# Altium integrated library ON Semi Logic Register.IntLib: 72 symbols (part 2 of 2)
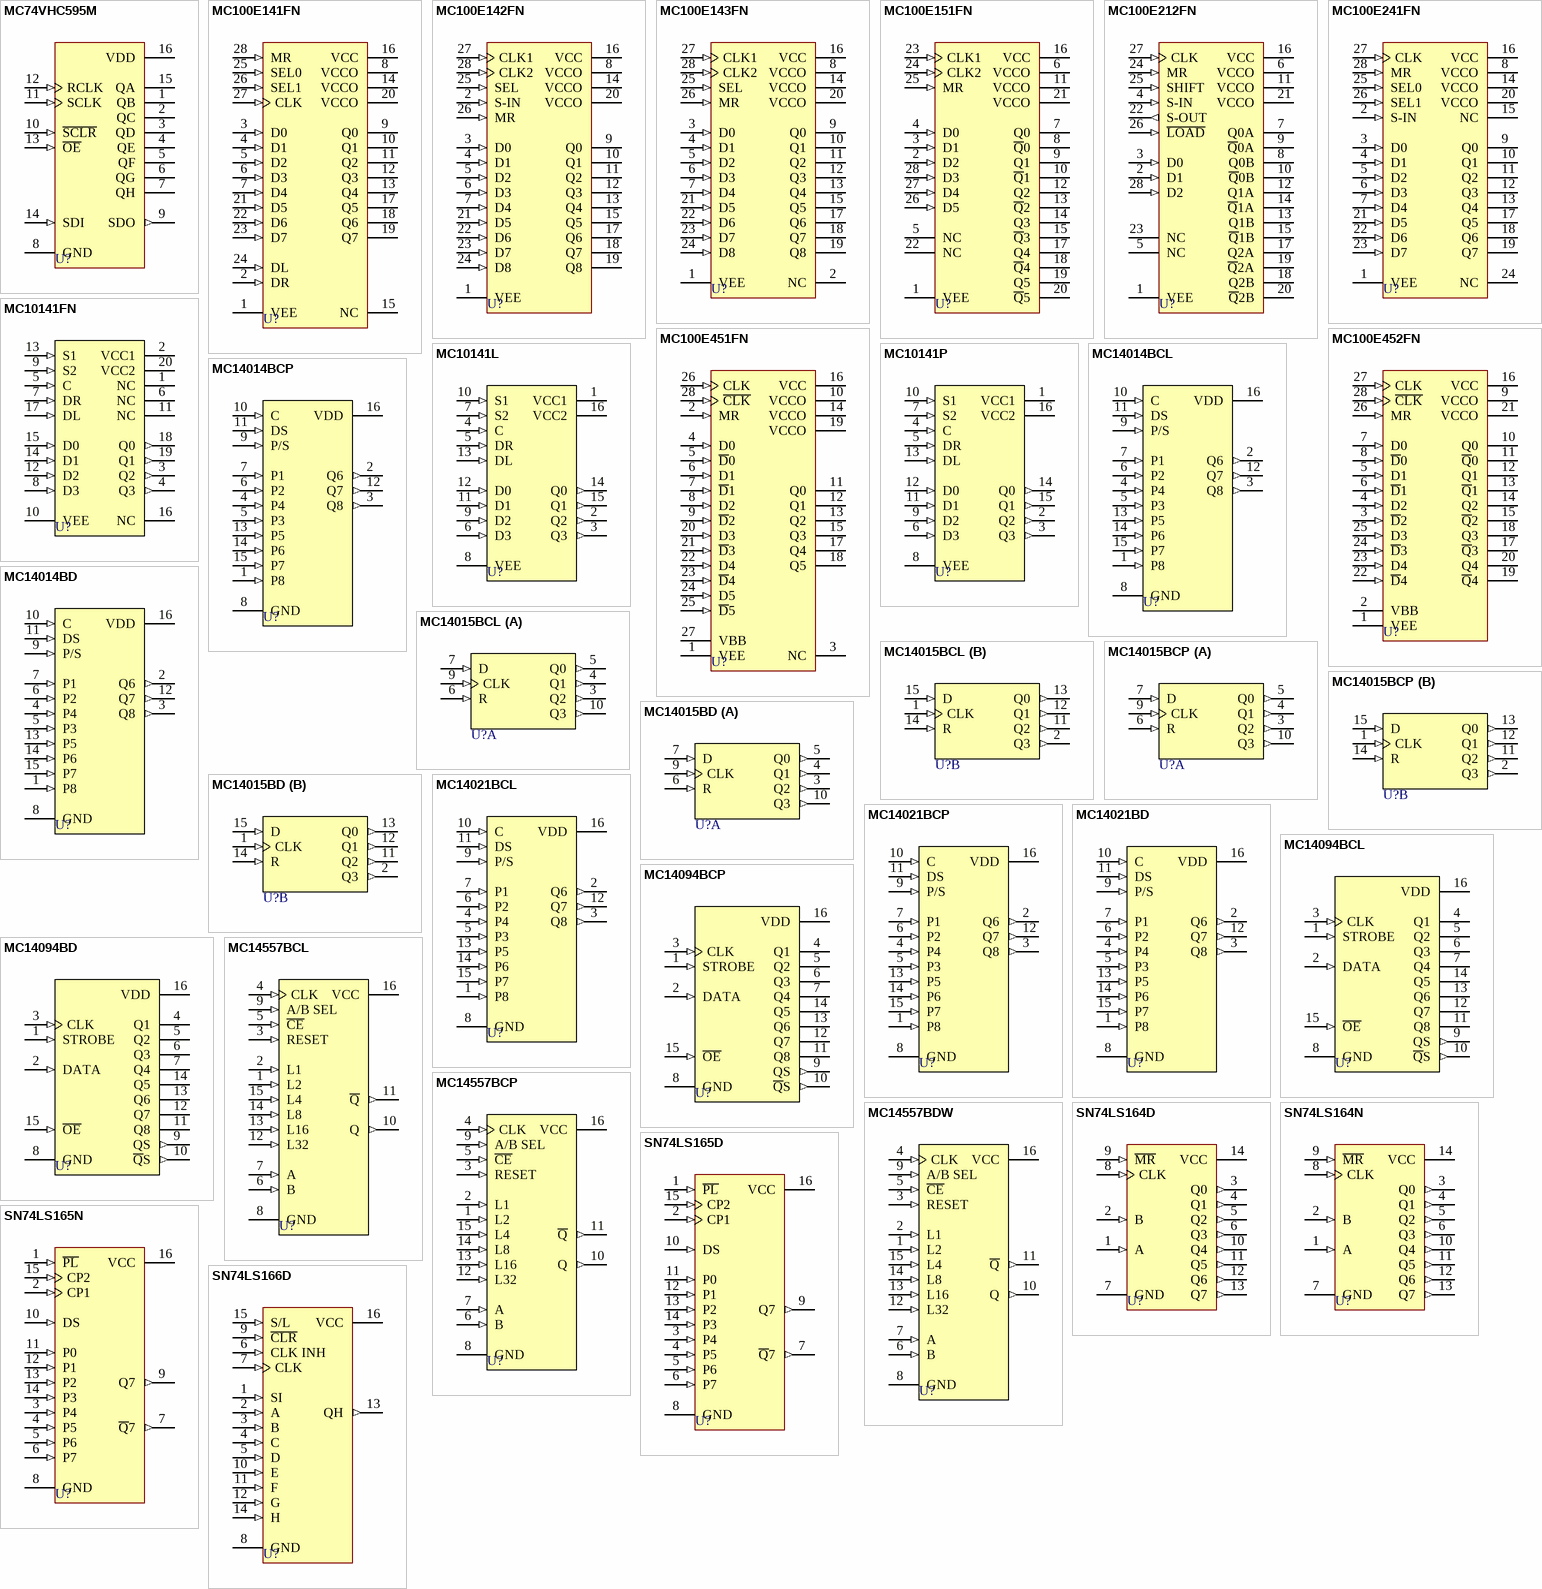
[diagram p3: symbols MC74VHC595M to SN74LS166D]

## MC14015BCP
designator U?
Dual 4-Bit Static Shift Register; Published: 15-Apr-2002; DatasheetVersion: 1995; PackageVersion: Apr-2000; PackageReference: 648-08; Publisher: Altium Limited; PackageDescription: DIP; 16 Leads; Row Spacing 7.62 mm; Pitch 2.54 mm; Code_JEDEC: MS-001-BB; ComponentLink1Description: Manufacturer Link; ComponentLink1URL: http://www.onsemi.com/; ComponentLink2Description: Datasheet; ComponentLink2URL: http://www.onsemi.com/pub/Collateral/MC14015B-D.PDF
footprint 648-08 (DIP; 16 Leads; Row Spacing 7.62 mm; Pitch 2.54 mm)
pins on every part: 8 GND (power) hidden to GND, 16 VDD (power) hidden to VDD
part A pins: 3 Q2 (out), 4 Q1 (out), 5 Q0 (out), 6 R (in), 7 D (in), 9 CLK (in), 10 Q3 (out)
part B pins: 1 CLK (in), 2 Q3 (out), 11 Q2 (out), 12 Q1 (out), 13 Q0 (out), 14 R (in), 15 D (in)

## MC14015BD
designator U?
Dual 4-Bit Static Shift Register; Published: 15-Apr-2002; LatestRevisionDate: 13-Apr-2006; LatestRevisionNote: IPC-7351 Footprint Added.; DatasheetVersion: 1995; PackageVersion: Oct-1999; PackageReference: 751B-05; Publisher: Altium Limited; PackageDescription: 16-Pin Small Outline Integrated Circuit 1.27 mm Pitch; Code_JEDEC: MS-012-AC; Code_IPC: SOIC127P600-16; ComponentLink1Description: Manufacturer Link; ComponentLink1URL: http://www.onsemi.com/; ComponentLink2Description: Datasheet; ComponentLink2URL: http://www.onsemi.com/pub/Collateral/MC14015B-D.PDF
footprint 751B-05_N (SOIC, 16-Leads, Body 9.9x3.9mm, Pitch 1.27mm, IPC Medium Density)
footprint 751B-05_L (SOIC, 16-Leads, Body 9.9x3.9mm, Pitch 1.27mm, IPC High Density)
footprint 751B-05_M (SOIC, 16-Leads, Body 9.9x3.9mm, Pitch 1.27mm, IPC Low Density)
pins on every part: 8 GND (power) hidden to GND, 16 VDD (power) hidden to VDD
part A pins: 3 Q2 (out), 4 Q1 (out), 5 Q0 (out), 6 R (in), 7 D (in), 9 CLK (in), 10 Q3 (out)
part B pins: 1 CLK (in), 2 Q3 (out), 11 Q2 (out), 12 Q1 (out), 13 Q0 (out), 14 R (in), 15 D (in)

## MC14021BCL
designator U?
8-Bit Static Shift Register; Published: 15-Apr-2002; DatasheetVersion: 1995; PackageVersion: 1996; PackageReference: 620-10; Publisher: Altium Limited; PackageDescription: DIP; 16 Leads; Row Spacing 7.62 mm; Pitch 2.54 mm; ComponentLink1Description: Manufacturer Link; ComponentLink1URL: http://www.onsemi.com/; ComponentLink2Description: Datasheet; ComponentLink2URL: http://www.onsemi.com/pub/Collateral/MC14014B-D.PDF
footprint 620-10 (DIP; 16 Leads; Row Spacing 7.62 mm; Pitch 2.54 mm)
pins: 1 P8 (in), 2 Q6 (out), 3 Q8 (out), 4 P4 (in), 5 P3 (in), 6 P2 (in), 7 P1 (in), 8 GND (power), 9 P/S (in), 10 C (in), 11 DS (in), 12 Q7 (out), 13 P5 (in), 14 P6 (in), 15 P7 (in), 16 VDD (power)

## MC14021BCP
designator U?
8-Bit Static Shift Register; Published: 15-Apr-2002; DatasheetVersion: 1995; PackageVersion: Apr-2000; PackageReference: 648-08; Publisher: Altium Limited; PackageDescription: DIP; 16 Leads; Row Spacing 7.62 mm; Pitch 2.54 mm; Code_JEDEC: MS-001-BB; ComponentLink1Description: Manufacturer Link; ComponentLink1URL: http://www.onsemi.com/; ComponentLink2Description: Datasheet; ComponentLink2URL: http://www.onsemi.com/pub/Collateral/MC14014B-D.PDF
footprint 648-08 (DIP; 16 Leads; Row Spacing 7.62 mm; Pitch 2.54 mm)
pins: 1 P8 (in), 2 Q6 (out), 3 Q8 (out), 4 P4 (in), 5 P3 (in), 6 P2 (in), 7 P1 (in), 8 GND (power), 9 P/S (in), 10 C (in), 11 DS (in), 12 Q7 (out), 13 P5 (in), 14 P6 (in), 15 P7 (in), 16 VDD (power)

## MC14021BD
designator U?
8-Bit Static Shift Register; Published: 15-Apr-2002; LatestRevisionDate: 13-Apr-2006; LatestRevisionNote: IPC-7351 Footprint Added.; DatasheetVersion: 1995; PackageVersion: Oct-1999; PackageReference: 751B-05; Publisher: Altium Limited; PackageDescription: 16-Pin Small Outline Integrated Circuit 1.27 mm Pitch; Code_JEDEC: MS-012-AC; Code_IPC: SOIC127P600-16; ComponentLink1Description: Manufacturer Link; ComponentLink1URL: http://www.onsemi.com/; ComponentLink2Description: Datasheet; ComponentLink2URL: http://www.onsemi.com/pub/Collateral/MC14014B-D.PDF
footprint 751B-05_N (SOIC, 16-Leads, Body 9.9x3.9mm, Pitch 1.27mm, IPC Medium Density)
footprint 751B-05_L (SOIC, 16-Leads, Body 9.9x3.9mm, Pitch 1.27mm, IPC High Density)
footprint 751B-05_M (SOIC, 16-Leads, Body 9.9x3.9mm, Pitch 1.27mm, IPC Low Density)
pins: 1 P8 (in), 2 Q6 (out), 3 Q8 (out), 4 P4 (in), 5 P3 (in), 6 P2 (in), 7 P1 (in), 8 GND (power), 9 P/S (in), 10 C (in), 11 DS (in), 12 Q7 (out), 13 P5 (in), 14 P6 (in), 15 P7 (in), 16 VDD (power)

## MC14094BCL
designator U?
8-Stage Shift/Store Register with 3-State Outputs; Published: 15-Apr-2002; DatasheetVersion: 1995; PackageVersion: 1996; PackageReference: 620-10; Publisher: Altium Limited; PackageDescription: DIP; 16 Leads; Row Spacing 7.62 mm; Pitch 2.54 mm; ComponentLink1Description: Manufacturer Link; ComponentLink1URL: http://www.onsemi.com/; ComponentLink2Description: Datasheet; ComponentLink2URL: http://www.onsemi.com/pub/Collateral/MC14094B-D.PDF
footprint 620-10 (DIP; 16 Leads; Row Spacing 7.62 mm; Pitch 2.54 mm)
pins: 1 STROBE (in), 2 DATA (in), 3 CLK (in), 4 Q1 (hiz), 5 Q2 (hiz), 6 Q3 (hiz), 7 Q4 (hiz), 8 GND (power), 9 QS (out), 10 ~{Q}S (out), 11 Q8 (hiz), 12 Q7 (hiz), 13 Q6 (hiz), 14 Q5 (hiz), 15 ~{OE} (in), 16 VDD (power)

## MC14094BCP
designator U?
8-Stage Shift/Store Register with 3-State Outputs; Published: 15-Apr-2002; DatasheetVersion: 1995; PackageVersion: Apr-2000; PackageReference: 648-08; Publisher: Altium Limited; PackageDescription: DIP; 16 Leads; Row Spacing 7.62 mm; Pitch 2.54 mm; Code_JEDEC: MS-001-BB; ComponentLink1Description: Manufacturer Link; ComponentLink1URL: http://www.onsemi.com/; ComponentLink2Description: Datasheet; ComponentLink2URL: http://www.onsemi.com/pub/Collateral/MC14094B-D.PDF
footprint 648-08 (DIP; 16 Leads; Row Spacing 7.62 mm; Pitch 2.54 mm)
pins: 1 STROBE (in), 2 DATA (in), 3 CLK (in), 4 Q1 (hiz), 5 Q2 (hiz), 6 Q3 (hiz), 7 Q4 (hiz), 8 GND (power), 9 QS (out), 10 ~{Q}S (out), 11 Q8 (hiz), 12 Q7 (hiz), 13 Q6 (hiz), 14 Q5 (hiz), 15 ~{OE} (in), 16 VDD (power)

## MC14094BD
designator U?
8-Stage Shift/Store Register with 3-State Outputs; Published: 15-Apr-2002; LatestRevisionDate: 13-Apr-2006; LatestRevisionNote: IPC-7351 Footprint Added.; DatasheetVersion: 1995; PackageVersion: Oct-1999; PackageReference: 751B-05; Publisher: Altium Limited; PackageDescription: 16-Pin Small Outline Integrated Circuit 1.27 mm Pitch; Code_JEDEC: MS-012-AC; Code_IPC: SOIC127P600-16; ComponentLink1Description: Manufacturer Link; ComponentLink1URL: http://www.onsemi.com/; ComponentLink2Description: Datasheet; ComponentLink2URL: http://www.onsemi.com/pub/Collateral/MC14094B-D.PDF
footprint 751B-05_N (SOIC, 16-Leads, Body 9.9x3.9mm, Pitch 1.27mm, IPC Medium Density)
footprint 751B-05_L (SOIC, 16-Leads, Body 9.9x3.9mm, Pitch 1.27mm, IPC High Density)
footprint 751B-05_M (SOIC, 16-Leads, Body 9.9x3.9mm, Pitch 1.27mm, IPC Low Density)
pins: 1 STROBE (in), 2 DATA (in), 3 CLK (in), 4 Q1 (hiz), 5 Q2 (hiz), 6 Q3 (hiz), 7 Q4 (hiz), 8 GND (power), 9 QS (out), 10 ~{Q}S (out), 11 Q8 (hiz), 12 Q7 (hiz), 13 Q6 (hiz), 14 Q5 (hiz), 15 ~{OE} (in), 16 VDD (power)

## MC14557BCL
designator U?
1-to-64-Bit Variable Length Shift Register; Published: 15-Apr-2002; DatasheetVersion: 1995; PackageVersion: 1996; PackageReference: 620-10; Publisher: Altium Limited; PackageDescription: DIP; 16 Leads; Row Spacing 7.62 mm; Pitch 2.54 mm; ComponentLink1Description: Manufacturer Link; ComponentLink1URL: http://www.onsemi.com/; ComponentLink2Description: Datasheet; ComponentLink2URL: http://www.onsemi.com/pub/Collateral/MC14557-D.PDF
footprint 620-10 (DIP; 16 Leads; Row Spacing 7.62 mm; Pitch 2.54 mm)
pins: 1 L2 (in), 2 L1 (in), 3 RESET (in), 4 CLK (in), 5 ~{CE} (in), 6 B (in), 7 A (in), 8 GND (power), 9 A/B SEL (in), 10 Q (out), 11 ~{Q} (out), 12 L32 (in), 13 L16 (in), 14 L8 (in), 15 L4 (in), 16 VCC (power)

## MC14557BCP
designator U?
1-to-64-Bit Variable Length Shift Register; Published: 15-Apr-2002; DatasheetVersion: 1995; PackageVersion: Apr-2000; PackageReference: 648-08; Publisher: Altium Limited; PackageDescription: DIP; 16 Leads; Row Spacing 7.62 mm; Pitch 2.54 mm; Code_JEDEC: MS-001-BB; ComponentLink1Description: Manufacturer Link; ComponentLink1URL: http://www.onsemi.com/; ComponentLink2Description: Datasheet; ComponentLink2URL: http://www.onsemi.com/pub/Collateral/MC14557-D.PDF
footprint 648-08 (DIP; 16 Leads; Row Spacing 7.62 mm; Pitch 2.54 mm)
pins: 1 L2 (in), 2 L1 (in), 3 RESET (in), 4 CLK (in), 5 ~{CE} (in), 6 B (in), 7 A (in), 8 GND (power), 9 A/B SEL (in), 10 Q (out), 11 ~{Q} (out), 12 L32 (in), 13 L16 (in), 14 L8 (in), 15 L4 (in), 16 VCC (power)

## MC14557BDW
designator U?
1-to-64-Bit Variable Length Shift Register; Published: 15-Apr-2002; LatestRevisionDate: 13-Apr-2006; LatestRevisionNote: IPC-7351 Footprint Added.; DatasheetVersion: 1995; PackageReference: 751G-02; Publisher: Altium Limited; PackageDescription: 16-Pin Small Outline Integrated Circuit 1.27 mm Pitch; ComponentLink1Description: Manufacturer Link; ComponentLink1URL: http://www.onsemi.com/; ComponentLink2Description: Datasheet; ComponentLink2URL: http://www.onsemi.com/pub/Collateral/MC14557-D.PDF
footprint 751G-02_N (SOIC, 16-Leads, Body 10.3x7.5mm, Pitch 1.27mm, IPC Medium Density)
footprint 751G-02_L (SOIC, 16-Leads, Body 10.3x7.5mm, Pitch 1.27mm, IPC High Density)
footprint 751G-02_M (SOIC, 16-Leads, Body 10.3x7.5mm, Pitch 1.27mm, IPC Low Density)
pins: 1 L2 (in), 2 L1 (in), 3 RESET (in), 4 CLK (in), 5 ~{CE} (in), 6 B (in), 7 A (in), 8 GND (power), 9 A/B SEL (in), 10 Q (out), 11 ~{Q} (out), 12 L32 (in), 13 L16 (in), 14 L8 (in), 15 L4 (in), 16 VCC (power)

## SN74LS164D
designator U?
Serial-In Parallel-Out Shift Register; Published: 15-Apr-2002; LatestRevisionDate: 13-Apr-2006; LatestRevisionNote: IPC-7351 Footprint Added.; DatasheetVersion: Dec-1999; PackageReference: 751A-03; Publisher: Altium Limited; PackageDescription: 14-Pin Small Outline Integrated Circuit 1.27 mm Pitch; Code_JEDEC: MS-012-AB; Code_IPC: SOIC127P600-14; ComponentLink1Description: Manufacturer Link; ComponentLink1URL: http://www.onsemi.com/; ComponentLink2Description: Datasheet; ComponentLink2URL: http://www.onsemi.com/pub/Collateral/SN74LS164-D.PDF
footprint 751A-03_N (SOIC, 14-Leads, Body 8.7x3.9mm, Pitch 1.27mm, IPC Medium Density)
footprint 751A-03_L (SOIC, 14-Leads, Body 8.7x3.9mm, Pitch 1.27mm, IPC High Density)
footprint 751A-03_M (SOIC, 14-Leads, Body 8.7x3.9mm, Pitch 1.27mm, IPC Low Density)
signal-integrity model SN74LS259N
pins: 1 A (in), 2 B (in), 3 Q0 (out), 4 Q1 (out), 5 Q2 (out), 6 Q3 (out), 7 GND (power), 8 CLK (in), 9 ~{MR} (in), 10 Q4 (out), 11 Q5 (out), 12 Q6 (out), 13 Q7 (out), 14 VCC (power)

## SN74LS164N
designator U?
Serial-In Parallel-Out Shift Register; Published: 15-Apr-2002; DatasheetVersion: Dec-1999; PackageVersion: 1995; PackageReference: 646-06; Publisher: Altium Limited; PackageDescription: DIP; 14 Leads; Row Spacing 7.62 mm; Pitch 2.54 mm; ComponentLink1Description: Manufacturer Link; ComponentLink1URL: http://www.onsemi.com/; ComponentLink2Description: Datasheet; ComponentLink2URL: http://www.onsemi.com/pub/Collateral/SN74LS164-D.PDF
footprint 646-06 (DIP; 14 Leads; Row Spacing 7.62 mm; Pitch 2.54 mm)
signal-integrity model SN74LS259N
pins: 1 A (in), 2 B (in), 3 Q0 (out), 4 Q1 (out), 5 Q2 (out), 6 Q3 (out), 7 GND (power), 8 CLK (in), 9 ~{MR} (in), 10 Q4 (out), 11 Q5 (out), 12 Q6 (out), 13 Q7 (out), 14 VCC (power)

## SN74LS165D
designator U?
8-Bit Parallel-to-Serial Shift Register; ComponentAvailability: Not for New Design; Published: 15-Apr-2002; LatestRevisionDate: 13-Apr-2006; LatestRevisionNote: IPC-7351 Footprint Added.; DatasheetVersion: Dec-1999; PackageVersion: Oct-1999; PackageReference: 751B-05; Publisher: Altium Limited; PackageDescription: 16-Pin Small Outline Integrated Circuit 1.27 mm Pitch; Code_JEDEC: MS-012-AC; Code_IPC: SOIC127P600-16; ComponentLink1Description: Manufacturer Link; ComponentLink1URL: http://www.onsemi.com/; ComponentLink2Description: Datasheet; ComponentLink2URL: http://www.onsemi.com/pub/Collateral/SN74LS165-D.PDF
footprint 751B-05_N (SOIC, 16-Leads, Body 9.9x3.9mm, Pitch 1.27mm, IPC Medium Density)
footprint 751B-05_L (SOIC, 16-Leads, Body 9.9x3.9mm, Pitch 1.27mm, IPC High Density)
footprint 751B-05_M (SOIC, 16-Leads, Body 9.9x3.9mm, Pitch 1.27mm, IPC Low Density)
signal-integrity model SN74LS259N
pins: 1 ~{PL} (in), 2 CP1 (in), 3 P4 (in), 4 P5 (in), 5 P6 (in), 6 P7 (in), 7 ~{Q}7 (out), 8 GND (power), 9 Q7 (out), 10 DS (in), 11 P0 (in), 12 P1 (in), 13 P2 (in), 14 P3 (in), 15 CP2 (in), 16 VCC (power)

## SN74LS165N
designator U?
8-Bit Parallel-to-Serial Shift Register; ComponentAvailability: Not for New Design; Published: 15-Apr-2002; DatasheetVersion: Dec-1999; PackageVersion: Apr-2000; PackageReference: 648-08; Publisher: Altium Limited; PackageDescription: DIP; 16 Leads; Row Spacing 7.62 mm; Pitch 2.54 mm; Code_JEDEC: MS-001-BB; ComponentLink1Description: Manufacturer Link; ComponentLink1URL: http://www.onsemi.com/; ComponentLink2Description: Datasheet; ComponentLink2URL: http://www.onsemi.com/pub/Collateral/SN74LS165-D.PDF
footprint 648-08 (DIP; 16 Leads; Row Spacing 7.62 mm; Pitch 2.54 mm)
signal-integrity model SN74LS259N
pins: 1 ~{PL} (in), 2 CP1 (in), 3 P4 (in), 4 P5 (in), 5 P6 (in), 6 P7 (in), 7 ~{Q}7 (out), 8 GND (power), 9 Q7 (out), 10 DS (in), 11 P0 (in), 12 P1 (in), 13 P2 (in), 14 P3 (in), 15 CP2 (in), 16 VCC (power)

## SN74LS166D
designator U?
8-Bit Shift Register; ComponentAvailability: Not for New Design; Published: 15-Apr-2002; LatestRevisionDate: 13-Apr-2006; LatestRevisionNote: IPC-7351 Footprint Added.; DatasheetVersion: Dec-1999; PackageVersion: Oct-1999; PackageReference: 751B-05; Publisher: Altium Limited; PackageDescription: 16-Pin Small Outline Integrated Circuit 1.27 mm Pitch; Code_JEDEC: MS-012-AC; Code_IPC: SOIC127P600-16; ComponentLink1Description: Manufacturer Link; ComponentLink1URL: http://www.onsemi.com/; ComponentLink2Description: Datasheet; ComponentLink2URL: http://www.onsemi.com/pub/Collateral/SN74LS166-D.PDF
footprint 751B-05_N (SOIC, 16-Leads, Body 9.9x3.9mm, Pitch 1.27mm, IPC Medium Density)
footprint 751B-05_L (SOIC, 16-Leads, Body 9.9x3.9mm, Pitch 1.27mm, IPC High Density)
footprint 751B-05_M (SOIC, 16-Leads, Body 9.9x3.9mm, Pitch 1.27mm, IPC Low Density)
signal-integrity model SN74LS259N
pins: 1 SI (in), 2 A (in), 3 B (in), 4 C (in), 5 D (in), 6 CLK INH (in), 7 CLK (in), 8 GND (power), 9 ~{CLR} (in), 10 E (in), 11 F (in), 12 G (in), 13 QH (out), 14 H (in), 15 S/L (in), 16 VCC (power)

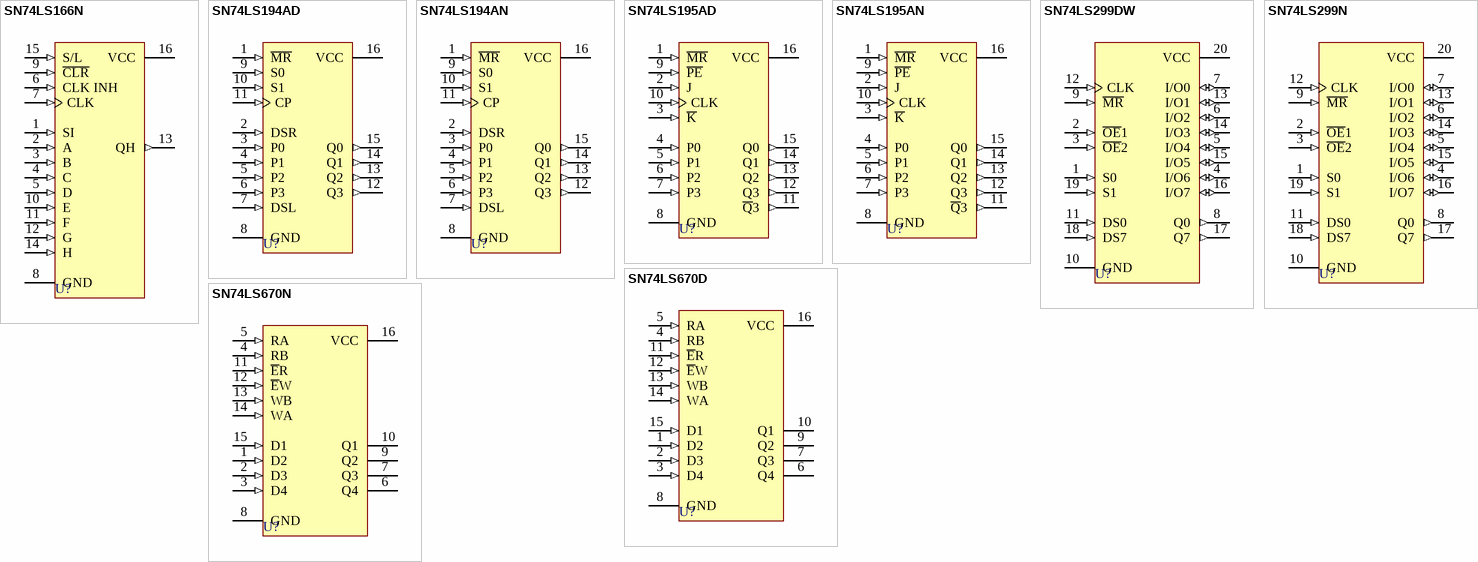
[diagram p2: symbols SN74LS166N to SN74LS670N]

## SN74LS166N
designator U?
8-Bit Shift Register; ComponentAvailability: Not for New Design; Published: 15-Apr-2002; DatasheetVersion: Dec-1999; PackageVersion: Apr-2000; PackageReference: 648-08; Publisher: Altium Limited; PackageDescription: DIP; 16 Leads; Row Spacing 7.62 mm; Pitch 2.54 mm; Code_JEDEC: MS-001-BB; ComponentLink1Description: Manufacturer Link; ComponentLink1URL: http://www.onsemi.com/; ComponentLink2Description: Datasheet; ComponentLink2URL: http://www.onsemi.com/pub/Collateral/SN74LS166-D.PDF
footprint 648-08 (DIP; 16 Leads; Row Spacing 7.62 mm; Pitch 2.54 mm)
signal-integrity model SN74LS259N
pins: 1 SI (in), 2 A (in), 3 B (in), 4 C (in), 5 D (in), 6 CLK INH (in), 7 CLK (in), 8 GND (power), 9 ~{CLR} (in), 10 E (in), 11 F (in), 12 G (in), 13 QH (out), 14 H (in), 15 S/L (in), 16 VCC (power)

## SN74LS194AD
designator U?
4-Bit Bidirectional Universal Shift Register; Published: 15-Apr-2002; LatestRevisionDate: 13-Apr-2006; LatestRevisionNote: IPC-7351 Footprint Added.; DatasheetVersion: Dec-1999; PackageVersion: Oct-1999; PackageReference: 751B-05; Publisher: Altium Limited; PackageDescription: 16-Pin Small Outline Integrated Circuit 1.27 mm Pitch; Code_JEDEC: MS-012-AC; Code_IPC: SOIC127P600-16; ComponentLink1Description: Manufacturer Link; ComponentLink1URL: http://www.onsemi.com/; ComponentLink2Description: Datasheet; ComponentLink2URL: http://www.onsemi.com/pub/Collateral/SN74LS194A-D.PDF
footprint 751B-05_N (SOIC, 16-Leads, Body 9.9x3.9mm, Pitch 1.27mm, IPC Medium Density)
footprint 751B-05_L (SOIC, 16-Leads, Body 9.9x3.9mm, Pitch 1.27mm, IPC High Density)
footprint 751B-05_M (SOIC, 16-Leads, Body 9.9x3.9mm, Pitch 1.27mm, IPC Low Density)
signal-integrity model SN74LS259N
pins: 1 ~{MR} (in), 2 DSR (in), 3 P0 (in), 4 P1 (in), 5 P2 (in), 6 P3 (in), 7 DSL (in), 8 GND (power), 9 S0 (in), 10 S1 (in), 11 CP (in), 12 Q3 (out), 13 Q2 (out), 14 Q1 (out), 15 Q0 (out), 16 VCC (power)

## SN74LS194AN
designator U?
4-Bit Bidirectional Universal Shift Register; Published: 15-Apr-2002; DatasheetVersion: Dec-1999; PackageVersion: Apr-2000; PackageReference: 648-08; Publisher: Altium Limited; PackageDescription: DIP; 16 Leads; Row Spacing 7.62 mm; Pitch 2.54 mm; Code_JEDEC: MS-001-BB; ComponentLink1Description: Manufacturer Link; ComponentLink1URL: http://www.onsemi.com/; ComponentLink2Description: Datasheet; ComponentLink2URL: http://www.onsemi.com/pub/Collateral/SN74LS194A-D.PDF
footprint 648-08 (DIP; 16 Leads; Row Spacing 7.62 mm; Pitch 2.54 mm)
signal-integrity model SN74LS259N
pins: 1 ~{MR} (in), 2 DSR (in), 3 P0 (in), 4 P1 (in), 5 P2 (in), 6 P3 (in), 7 DSL (in), 8 GND (power), 9 S0 (in), 10 S1 (in), 11 CP (in), 12 Q3 (out), 13 Q2 (out), 14 Q1 (out), 15 Q0 (out), 16 VCC (power)

## SN74LS195AD
designator U?
Universal 4-Bit Shift Register; Published: 15-Apr-2002; LatestRevisionDate: 13-Apr-2006; LatestRevisionNote: IPC-7351 Footprint Added.; DatasheetVersion: Dec-1999; PackageVersion: Oct-1999; PackageReference: 751B-05; Publisher: Altium Limited; PackageDescription: 16-Pin Small Outline Integrated Circuit 1.27 mm Pitch; Code_JEDEC: MS-012-AC; Code_IPC: SOIC127P600-16; ComponentLink1Description: Manufacturer Link; ComponentLink1URL: http://www.onsemi.com/; ComponentLink2Description: Datasheet; ComponentLink2URL: http://www.onsemi.com/pub/Collateral/SN74LS195A-D.PDF
footprint 751B-05_N (SOIC, 16-Leads, Body 9.9x3.9mm, Pitch 1.27mm, IPC Medium Density)
footprint 751B-05_L (SOIC, 16-Leads, Body 9.9x3.9mm, Pitch 1.27mm, IPC High Density)
footprint 751B-05_M (SOIC, 16-Leads, Body 9.9x3.9mm, Pitch 1.27mm, IPC Low Density)
signal-integrity model SN74LS259N
pins: 1 ~{MR} (in), 2 J (in), 3 ~{K} (in), 4 P0 (in), 5 P1 (in), 6 P2 (in), 7 P3 (in), 8 GND (power), 9 ~{PE} (in), 10 CLK (in), 11 ~{Q}3 (out), 12 Q3 (out), 13 Q2 (out), 14 Q1 (out), 15 Q0 (out), 16 VCC (power)

## SN74LS195AN
designator U?
Universal 4-Bit Shift Register; Published: 15-Apr-2002; DatasheetVersion: Dec-1999; PackageVersion: Apr-2000; PackageReference: 648-08; Publisher: Altium Limited; PackageDescription: DIP; 16 Leads; Row Spacing 7.62 mm; Pitch 2.54 mm; Code_JEDEC: MS-001-BB; ComponentLink1Description: Manufacturer Link; ComponentLink1URL: http://www.onsemi.com/; ComponentLink2Description: Datasheet; ComponentLink2URL: http://www.onsemi.com/pub/Collateral/SN74LS195A-D.PDF
footprint 648-08 (DIP; 16 Leads; Row Spacing 7.62 mm; Pitch 2.54 mm)
signal-integrity model SN74LS259N
pins: 1 ~{MR} (in), 2 J (in), 3 ~{K} (in), 4 P0 (in), 5 P1 (in), 6 P2 (in), 7 P3 (in), 8 GND (power), 9 ~{PE} (in), 10 CLK (in), 11 ~{Q}3 (out), 12 Q3 (out), 13 Q2 (out), 14 Q1 (out), 15 Q0 (out), 16 VCC (power)

## SN74LS299DW
designator U?
8-Bit Shift/Storage Register with 3-State Outputs; Published: 15-Apr-2002; LatestRevisionDate: 13-Apr-2006; LatestRevisionNote: IPC-7351 Footprint Added.; DatasheetVersion: Dec-1999; PackageReference: 751D-05; Publisher: Altium Limited; PackageDescription: 20-Pin Small Outline Integrated Circuit 1.27 mm Pitch; ComponentLink1Description: Manufacturer Link; ComponentLink1URL: http://www.onsemi.com/; ComponentLink2Description: Datasheet; ComponentLink2URL: http://www.onsemi.com/pub/Collateral/SN74LS299-D.PDF
footprint 751D-05_N (SOIC, 20-Leads, Body 12.8x7.5mm, Pitch 1.27mm, IPC Medium Density)
footprint 751D-05_L (SOIC, 20-Leads, Body 12.8x7.5mm, Pitch 1.27mm, IPC High Density)
footprint 751D-05_M (SOIC, 20-Leads, Body 12.8x7.5mm, Pitch 1.27mm, IPC Low Density)
signal-integrity model SN74LS259N
pins: 1 S0 (in), 2 ~{OE}1 (in), 3 ~{OE}2 (in), 4 I/O6 (io), 5 I/O4 (io), 6 I/O2 (io), 7 I/O0 (io), 8 Q0 (out), 9 ~{MR} (in), 10 GND (power), 11 DS0 (in), 12 CLK (in), 13 I/O1 (io), 14 I/O3 (io), 15 I/O5 (io), 16 I/O7 (io), 17 Q7 (out), 18 DS7 (in), 19 S1 (in), 20 VCC (power)

## SN74LS299N
designator U?
8-Bit Shift/Storage Register with 3-State Outputs; Published: 15-Apr-2002; DatasheetVersion: Dec-1999; PackageVersion: 1996; PackageReference: 738-03; Publisher: Altium Limited; PackageDescription: DIP; 20 Leads; Row Spacing 7.62 mm; Pitch 2.54 mm; Code_JEDEC: MS-001-AD; ComponentLink1Description: Manufacturer Link; ComponentLink1URL: http://www.onsemi.com/; ComponentLink2Description: Datasheet; ComponentLink2URL: http://www.onsemi.com/pub/Collateral/SN74LS299-D.PDF
footprint 738-03 (DIP; 20 Leads; Row Spacing 7.62 mm; Pitch 2.54 mm)
signal-integrity model SN74LS259N
pins: 1 S0 (in), 2 ~{OE}1 (in), 3 ~{OE}2 (in), 4 I/O6 (io), 5 I/O4 (io), 6 I/O2 (io), 7 I/O0 (io), 8 Q0 (out), 9 ~{MR} (in), 10 GND (power), 11 DS0 (in), 12 CLK (in), 13 I/O1 (io), 14 I/O3 (io), 15 I/O5 (io), 16 I/O7 (io), 17 Q7 (out), 18 DS7 (in), 19 S1 (in), 20 VCC (power)

## SN74LS670D
designator U?
4x4 Register File with 3-State Outputs; ComponentAvailability: Not for New Design; Published: 15-Apr-2002; LatestRevisionDate: 13-Apr-2006; LatestRevisionNote: IPC-7351 Footprint Added.; DatasheetVersion: Dec-1999; PackageVersion: Oct-1999; PackageReference: 751B-05; Publisher: Altium Limited; PackageDescription: 16-Pin Small Outline Integrated Circuit 1.27 mm Pitch; Code_JEDEC: MS-012-AC; Code_IPC: SOIC127P600-16; ComponentLink1Description: Manufacturer Link; ComponentLink1URL: http://www.onsemi.com/; ComponentLink2Description: Datasheet; ComponentLink2URL: http://www.onsemi.com/pub/Collateral/SN74LS670-D.PDF
footprint 751B-05_N (SOIC, 16-Leads, Body 9.9x3.9mm, Pitch 1.27mm, IPC Medium Density)
footprint 751B-05_L (SOIC, 16-Leads, Body 9.9x3.9mm, Pitch 1.27mm, IPC High Density)
footprint 751B-05_M (SOIC, 16-Leads, Body 9.9x3.9mm, Pitch 1.27mm, IPC Low Density)
signal-integrity model SN74LS259N
pins: 1 D2 (in), 2 D3 (in), 3 D4 (in), 4 RB (in), 5 RA (in), 6 Q4 (hiz), 7 Q3 (hiz), 8 GND (power), 9 Q2 (hiz), 10 Q1 (hiz), 11 ~{E}R (in), 12 ~{E}W (in), 13 WB (in), 14 WA (in), 15 D1 (in), 16 VCC (power)

## SN74LS670N
designator U?
4x4 Register File with 3-State Outputs; ComponentAvailability: Not for New Design; Published: 15-Apr-2002; DatasheetVersion: Dec-1999; PackageVersion: Apr-2000; PackageReference: 648-08; Publisher: Altium Limited; PackageDescription: DIP; 16 Leads; Row Spacing 7.62 mm; Pitch 2.54 mm; Code_JEDEC: MS-001-BB; ComponentLink1Description: Manufacturer Link; ComponentLink1URL: http://www.onsemi.com/; ComponentLink2Description: Datasheet; ComponentLink2URL: http://www.onsemi.com/pub/Collateral/SN74LS670-D.PDF
footprint 648-08 (DIP; 16 Leads; Row Spacing 7.62 mm; Pitch 2.54 mm)
signal-integrity model SN74LS259N
pins: 1 D2 (in), 2 D3 (in), 3 D4 (in), 4 RB (in), 5 RA (in), 6 Q4 (hiz), 7 Q3 (hiz), 8 GND (power), 9 Q2 (hiz), 10 Q1 (hiz), 11 ~{E}R (in), 12 ~{E}W (in), 13 WB (in), 14 WA (in), 15 D1 (in), 16 VCC (power)